# Altium footprint library TPS563203DRLR.PcbLib: 3 footprints
Each footprint in its own frame and in the unit in brackets; x right, y up, seen from the top. Pads: shape width x height; smd on the part's side, far side on the other; paste and mask are expansions set on the pad; w line width, h text height; cw(c..) or ccw(c..) is an arc to the next point about the centre after c.
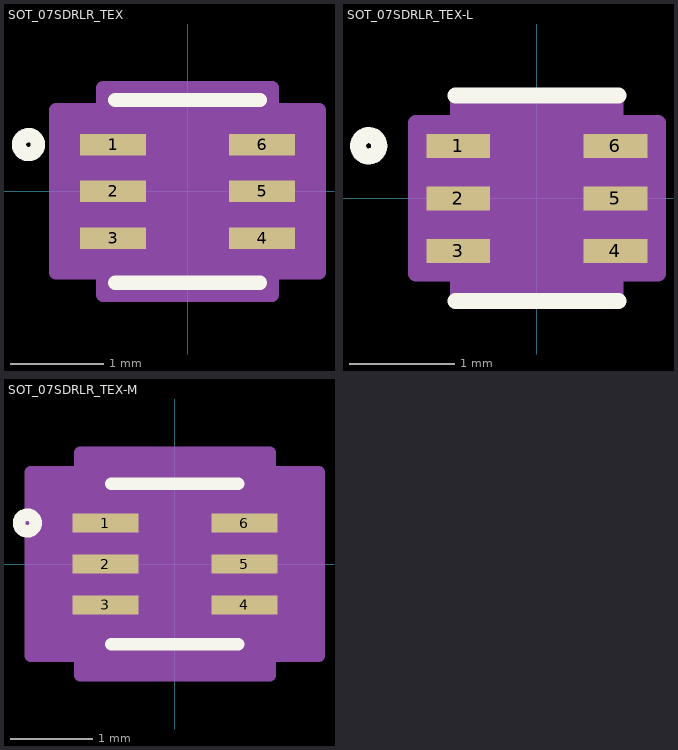
[diagram p0: the footprints below, top view; thin cyan lines are the x and y axes]

## SOT_07SDRLR_TEX [mm]
pads (6):
  rect 0.706x0.229 smd paste+0 mask+0: 1(-0.798,0.5) 2(-0.798,0) 3(-0.798,-0.5) 4(0.798,-0.5) 5(0.798,0) 6(0.798,0.5)
Top Overlay:
  circle w0.152: c-1.702,0.5 r0.102
  lines w0.152: -0.775,-0.978 0.775,-0.978 ; -0.775,0.978 0.775,0.978
  text ".Designator" at -3.492,-0.635 h1.27
Mechanical 13:
  circle w0.025: c-0.445,0.5 r0.076
  lines w0.025: -0.305,0.851 ccw(c0,0.851) 0.305,0.851 ; -0.648,-0.851 0.648,-0.851 0.648,0.851 -0.648,0.851 -0.648,-0.851
  text ".Designator" at -3.492,-0.635 h1.27
Mechanical 15:
  region: -0.902,-0.869 -1.405,-0.869 -1.405,0.869 -0.902,0.869 -0.902,1.105 0.902,1.105 0.902,0.869 1.405,0.869 1.405,-0.869 0.902,-0.869 0.902,-1.105 -0.902,-1.105
  lines w0.152: -1.405,-0.869 -1.405,0.869 -0.902,0.869 -0.902,1.105 0.902,1.105 0.902,0.869 1.405,0.869 1.405,-0.869 0.902,-0.869 0.902,-1.105 -0.902,-1.105 -0.902,-0.869 -1.405,-0.869
3D body "SOT_07SDRLR_TEX.step": height 0.61, standoff 0, extent -0.851,-0.851 0.851,0.851

## SOT_07SDRLR_TEX-L [mm]
pads (6):
  rect 0.606x0.229 smd paste+0 mask+0: 1(-0.748,0.5) 2(-0.748,0) 3(-0.748,-0.5) 4(0.748,-0.5) 5(0.748,0) 6(0.748,0.5)
Top Overlay:
  circle w0.152: c-1.602,0.5 r0.102
  lines w0.152: -0.775,-0.978 0.775,-0.978 ; -0.775,0.978 0.775,0.978
  text ".Designator" at -3.492,-0.635 h1.27
Mechanical 13:
  circle w0.025: c-0.445,0.5 r0.076
  lines w0.025: -0.305,0.851 ccw(c0,0.851) 0.305,0.851 ; -0.648,-0.851 0.648,-0.851 0.648,0.851 -0.648,0.851 -0.648,-0.851
  text ".Designator" at -3.492,-0.635 h1.27
Mechanical 15:
  region: -0.749,-0.716 -1.152,-0.716 -1.152,0.716 -0.749,0.716 -0.749,0.953 0.749,0.953 0.749,0.716 1.152,0.716 1.152,-0.716 0.749,-0.716 0.749,-0.953 -0.749,-0.953
  lines w0.152: -1.152,-0.716 -1.152,0.716 -0.749,0.716 -0.749,0.953 0.749,0.953 0.749,0.716 1.152,0.716 1.152,-0.716 0.749,-0.716 0.749,-0.953 -0.749,-0.953 -0.749,-0.716 -1.152,-0.716
3D body "SOT_07SDRLR_TEX.step": height 0.61, standoff 0, extent -0.851,-0.851 0.851,0.851

## SOT_07SDRLR_TEX-M [mm]
pads (6):
  rect 0.806x0.229 smd paste+0 mask+0: 1(-0.848,0.5) 2(-0.848,0) 3(-0.848,-0.5) 4(0.848,-0.5) 5(0.848,0) 6(0.848,0.5)
Top Overlay:
  circle w0.152: c-1.802,0.5 r0.102
  lines w0.152: -0.775,-0.978 0.775,-0.978 ; -0.775,0.978 0.775,0.978
  text ".Designator" at -3.492,-0.635 h1.27
Mechanical 13:
  circle w0.025: c-0.445,0.5 r0.076
  lines w0.025: -0.305,0.851 ccw(c0,0.851) 0.305,0.851 ; -0.648,-0.851 0.648,-0.851 0.648,0.851 -0.648,0.851 -0.648,-0.851
  text ".Designator" at -3.492,-0.635 h1.27
Mechanical 15:
  region: -1.156,-1.123 -1.759,-1.123 -1.759,1.123 -1.156,1.123 -1.156,1.359 1.156,1.359 1.156,1.123 1.759,1.123 1.759,-1.123 1.156,-1.123 1.156,-1.359 -1.156,-1.359
  lines w0.152: -1.759,-1.123 -1.759,1.123 -1.156,1.123 -1.156,1.359 1.156,1.359 1.156,1.123 1.759,1.123 1.759,-1.123 1.156,-1.123 1.156,-1.359 -1.156,-1.359 -1.156,-1.123 -1.759,-1.123
3D body "SOT_07SDRLR_TEX.step": height 0.61, standoff 0, extent -0.851,-0.851 0.851,0.851